# Altium footprint library CUI_NSIM-2-C.PcbLib: 1 footprints
Each footprint in its own frame and in the unit in brackets; x right, y up, seen from the top. Pads: shape width x height; smd on the part's side, far side on the other; paste and mask are expansions set on the pad; w line width, h text height; cw(c..) or ccw(c..) is an arc to the next point about the centre after c.
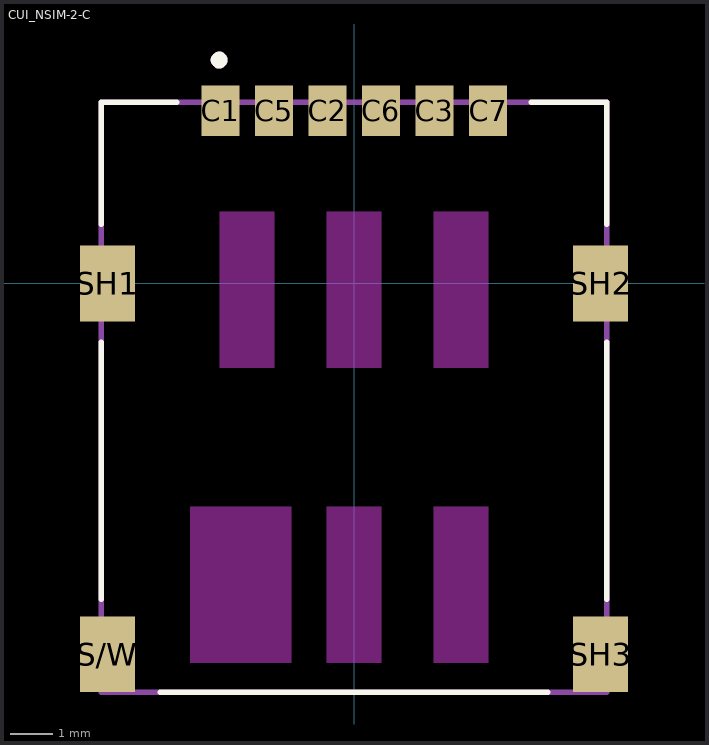
[diagram p0: the footprint, top view; thin cyan lines are the x and y axes]

## CUI_NSIM-2-C [mm]
height 1.6
pads (10):
  rect 0.9x1.2 smd: C1(-3.17,4.1) C2(-0.63,4.1) C3(1.91,4.1) C5(-1.9,4.1) C6(0.64,4.1) C7(3.18,4.1)
  rect 1.3x1.8 smd: S/W(-5.85,-8.8) SH1(-5.85,0) SH2(5.85,0) SH3(5.85,-8.8)
Top Overlay:
  circle w0.2: c-3.2,5.3 r0.1
  lines w0.127: -6,-7.5 -6,-1.4 ; -6,1.4 -6,4.3 -4.2,4.3 ; -4.6,-9.7 4.6,-9.7 ; 4.2,4.3 6,4.3 6,1.4 ; 6,-7.5 6,-1.4
Keep-Out Layer:
  region: 0.65,-2 -0.65,-2 -0.65,1.7 0.65,1.7
  region: 3.19,-2 1.89,-2 1.89,1.7 3.19,1.7
  region: 0.65,-9 -0.65,-9 -0.65,-5.3 0.65,-5.3
  region: 3.19,-9 1.89,-9 1.89,-5.3 3.19,-5.3
  region: -1.49,-9 -3.89,-9 -3.89,-5.3 -1.49,-5.3
  region: -1.89,-2 -3.19,-2 -3.19,1.7 -1.89,1.7
Assembly Top:
  circle w0.2: c-3.2,5.3 r0.1
  lines w0.127: -6,-9.7 -6,4.3 6,4.3 6,-9.7 -6,-9.7
3D body "step_temp.STEP": height 1.45, standoff 0.02, extent -6.177,-9.844 6.223,4.256